# Altium schematic symbol library LM393EDR2G.SchLib: 1 symbol
Pins are listed as number, name and electrical type; pins without a type are passive.

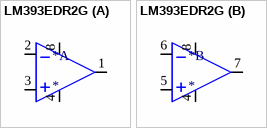
[diagram p0: symbol LM393EDR2G]

## LM393EDR2G
designator *
footprint SOIC8_4X5_ONS
part A pins: 1, 2, 3, 4, 8
part B pins: 4, 5, 6, 7, 8